# EAGLE library part INA170 (library burr-brown)
CURRENT SHUNT MONITOR High-Side, Bidirectional
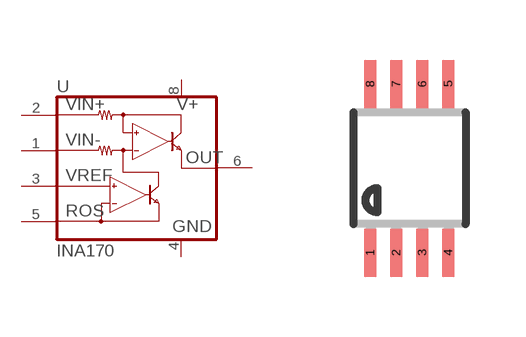
[diagram p179: symbol with the pads of MSOP08; footprint MSOP08]

Designator prefix U

## INA170  [MSOP08]
1  IN-  in
2  IN+  in
3  VREF  in
4  GND  pwr
5  ROS  in
6  OUT  out
8  V+  pwr

## Footprint MSOP08 (pad centres in mm)
Mini Small Outline Package
smd 0.3 x 1.2: 1 -0.976,-2.113; 2 -0.326,-2.113; 3 0.324,-2.113; 4 0.974,-2.113; 5 0.974,2.112; 6 0.324,2.112; 7 -0.326,2.112; 8 -0.976,2.112